# Altium footprint library EXB-2HV472JV.PcbLib: 1 footprints
Each footprint in its own frame and in the unit in brackets; x right, y up, seen from the top. Pads: shape width x height; smd on the part's side, far side on the other; paste and mask are expansions set on the pad; w line width, h text height; cw(c..) or ccw(c..) is an arc to the next point about the centre after c.
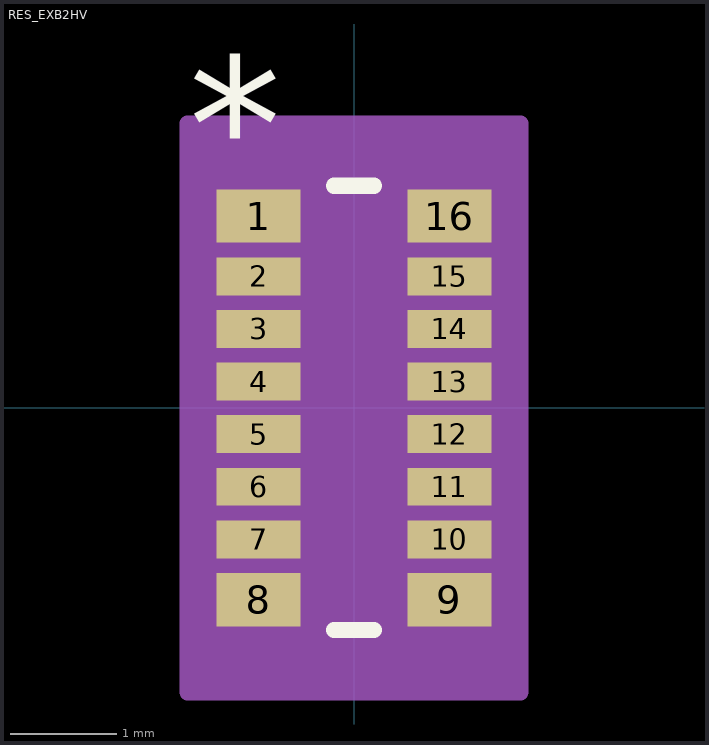
[diagram p0: the footprint, top view; thin cyan lines are the x and y axes]

## RES_EXB2HV [mil]
pads (16):
  rect 31x19.68 smd paste+0 mask+0: 1(-35.21,70.83) 8(-35.21,-70.83) 9(35.21,-70.83) 16(35.21,70.83)
  rect 31x14 smd paste+0 mask+0: 2(-35.21,48.57) 3(-35.21,29.14) 4(-35.21,9.71) 5(-35.21,-9.72) 6(-35.21,-29.15) 7(-35.21,-48.58) 10(35.21,-48.58) 11(35.21,-29.15) 12(35.21,-9.72) 13(35.21,9.71) 14(35.21,29.14) 15(35.21,48.57)
Top Overlay:
  lines w6: -7.4,-82 7.4,-82 ; -7.4,82 7.4,82
  text "*" at -61,80 h50
Mechanical 13:
  lines w0: -33.5,-59.01 ccw(c-33.5,-58.3) -33.5,-57.58 ; -33.5,-39.58 ccw(c-33.5,-38.87) -33.5,-38.15 ; -33.5,-20.15 ccw(c-33.5,-19.43) -33.5,-18.72 ; -33.5,-0.72 ccw(c-33.5,-0.01) -33.5,0.71 ; -33.5,18.71 ccw(c-33.5,19.43) -33.5,20.14 ; -33.5,38.14 ccw(c-33.5,38.85) -33.5,39.57 ; -33.5,57.57 ccw(c-33.5,58.28) -33.5,59 ; 33.5,-59.01 cw(c33.5,-58.3) 33.5,-57.58 ; 33.5,-39.58 cw(c33.5,-38.87) 33.5,-38.15 ; 33.5,-20.15 cw(c33.5,-19.43) 33.5,-18.72 ; 33.5,-0.72 cw(c33.5,-0.01) 33.5,0.71 ; 33.5,18.71 cw(c33.5,19.43) 33.5,20.14 ; 33.5,38.14 cw(c33.5,38.85) 33.5,39.57 ; 33.5,57.57 cw(c33.5,58.28) 33.5,59
  lines w1: -33.5,-57.58 -33.5,-39.58 ; -33.5,-38.15 -33.5,-20.15 ; -33.5,-18.72 -33.5,-0.72 ; -33.5,0.71 -33.5,18.71 ; -33.5,20.14 -33.5,38.14 ; -33.5,39.57 -33.5,57.57 ; -33.5,59 -33.5,77 33.5,77 33.5,59 ; -33.5,67 -23.5,77 ; 33.5,-57.58 33.5,-39.58 ; 33.5,-38.15 33.5,-20.15 ; 33.5,-18.72 33.5,-0.72 ; 33.5,0.71 33.5,18.71 ; 33.5,20.14 33.5,38.14 ; 33.5,39.57 33.5,57.57 ; -33.5,-59 -33.5,-77 33.5,-77 33.5,-59 ; -33.5,-59.01 -33.5,-59 ; 33.5,-59.01 33.5,-59
  text "*" at -31,32 h50
Mechanical 15:
  region: 61.5,-105 -61.5,-105 -61.5,105 61.5,105
  region: 33.5,-77 -33.5,-77 -33.5,77 33.5,77
  lines w6: -61.5,-105 61.5,-105 61.5,105 -61.5,105 -61.5,-105
3D body "EXB-2HV472JV.STEP": height 21.65, standoff 0, extent -31.5,-74.8 31.5,74.8